# Altium footprint library SX1308.PcbLib: 1 footprints
Each footprint in its own frame and in the unit in brackets; x right, y up, seen from the top. Pads: shape width x height; smd on the part's side, far side on the other; paste and mask are expansions set on the pad; w line width, h text height; cw(c..) or ccw(c..) is an arc to the next point about the centre after c.
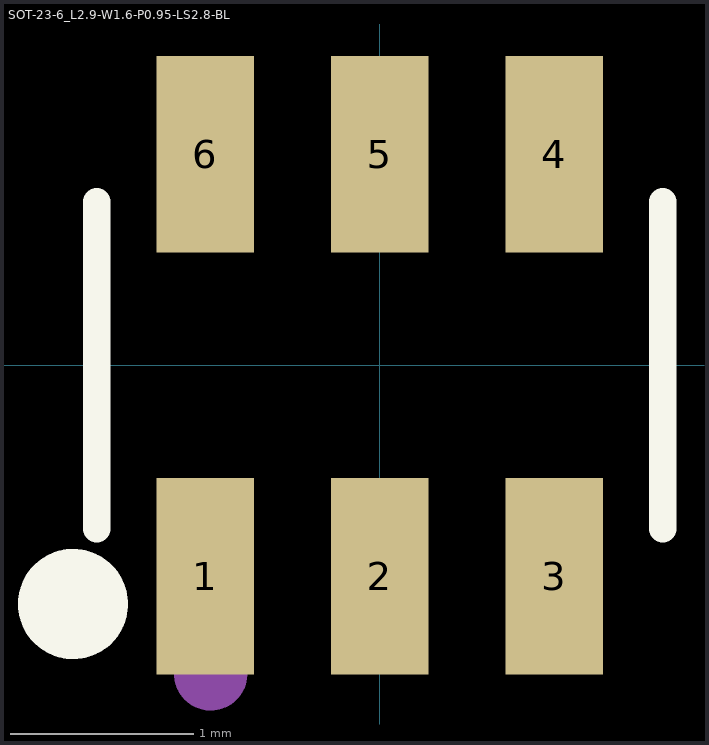
[diagram p0: the footprint, top view; thin cyan lines are the x and y axes]

## SOT-23-6_L2.9-W1.6-P0.95-LS2.8-BL [mm]
pads (6):
  rect 0.53x1.07 smd: 1(-0.95,-1.15) 2(0,-1.15) 3(0.95,-1.15) 4(0.95,1.15) 5(0,1.15) 6(-0.95,1.15)
F.SilkS:
  circle w0.3: c-1.67,-1.3 r0.15
  lines w0.15: -1.54,-0.89 -1.54,0.89 ; 1.54,-0.89 1.54,0.89
F.Fab:
  circle w0.06: c-1.46,-1.4 r0.03
Cmts.User:
  circle w0.2: c-0.92,-1.68 r0.1
3D body "SOT-23-6_L2.9-W1.6-H1.5-LS2.8-P0.95.step": height 1.6, standoff -0.05, extent -1.463,-1.397 1.437,1.415